# Altium footprint library XH-5AW.PcbLib: 1 footprints
Each footprint in its own frame and in the unit in brackets; x right, y up, seen from the top. Pads: shape width x height; smd on the part's side, far side on the other; paste and mask are expansions set on the pad; w line width, h text height; cw(c..) or ccw(c..) is an arc to the next point about the centre after c.
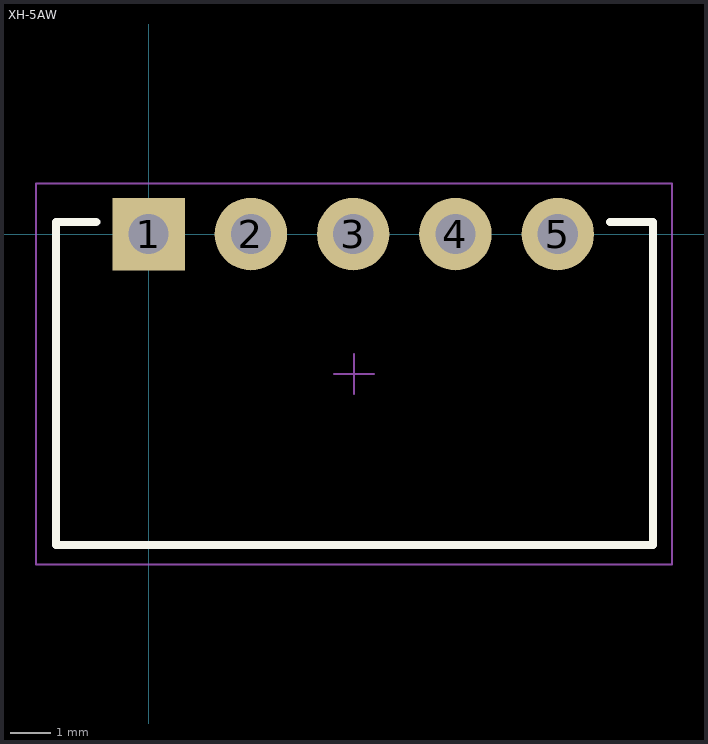
[diagram p0: the footprint, top view; thin cyan lines are the x and y axes]

## XH-5AW [mm]
pads (5):
  rect 1.8x1.8 hole 1: 1(0,0)
  round 1.8 hole 1: 2(2.54,0) 3(5.08,0) 4(7.62,0) 5(10.16,0)
Top Overlay:
  lines w0.2: -1.3,0.3 -2.3,0.3 -2.3,-7.725 12.525,-7.725 12.525,0.3 11.46,0.3
Top Courtyard:
  lines w0.05: 4.6,-3.475 5.6,-3.475 ; 5.1,-3.975 5.1,-2.975 ; -2.8,-8.2 -2.8,1.25 13,1.25 13,-8.2 -2.8,-8.2
3D body "JST - XH - Thru (R) - 5Pin - 2.54mm.stp": height 5.84, standoff -3.38, extent -2.317,-7.734 12.517,0.303